# Altium schematic symbol library SCH - RF - Demodulator - AD ADL5380ACPZ.SchLib: 1 symbol
Pins are listed as number, name and electrical type; pins without a type are passive.

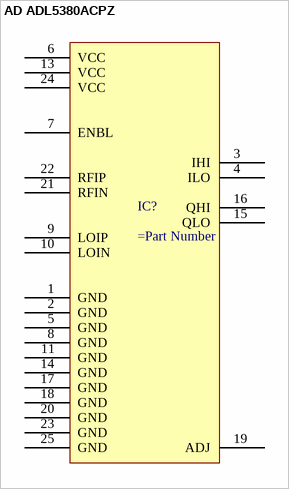
[diagram p0: symbol AD ADL5380ACPZ]

## AD ADL5380ACPZ
designator IC?
pins: 1 GND, 2 GND, 3 IHI, 4 ILO, 5 GND, 6 VCC, 7 ENBL, 8 GND, 9 LOIP, 10 LOIN, 11 GND, 13 VCC, 14 GND, 15 QLO, 16 QHI, 17 GND, 18 GND, 19 ADJ, 20 GND, 21 RFIN, 22 RFIP, 23 GND, 24 VCC, 25 GND